# Altium footprint library SOD-80.PcbLib: 1 footprints
Each footprint in its own frame and in the unit in brackets; x right, y up, seen from the top. Pads: shape width x height; smd on the part's side, far side on the other; paste and mask are expansions set on the pad; w line width, h text height; cw(c..) or ccw(c..) is an arc to the next point about the centre after c.
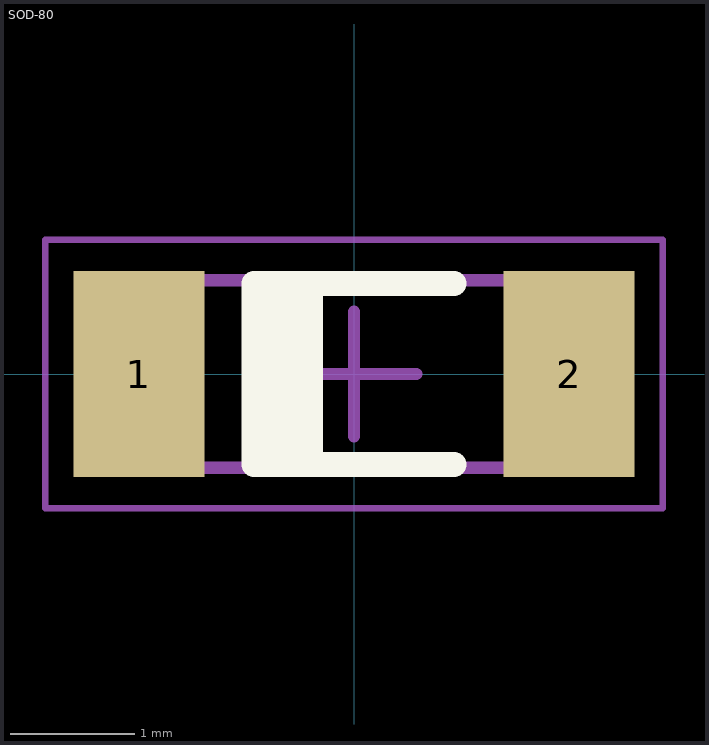
[diagram p0: the footprint, top view; thin cyan lines are the x and y axes]

## SOD-80 [mm] "MELF Diode, 2-Leads, Body 3,50x1,45mm, IPC Medium Density"
height 1.5
pads (2):
  rect 1.05x1.65 smd: 1(-1.725,0) 2(1.725,0)
Top Overlay:
  rectangle: -0.8,-0.725 -0.25,0.725
  lines w0.2: 0.8,-0.725 -0.8,-0.725 -0.8,0.725 0.8,0.725
Mechanical 13:
  lines w0.1: -1.8,-0.75 1.8,-0.75 1.8,0.75 -1.8,0.75 -1.8,-0.75
Mechanical 15:
  lines w0.05: -2.475,-1.075 2.475,-1.075 2.475,1.075 -2.475,1.075 -2.475,-1.075
  lines w0.1: -0.5,0 0.5,0 ; 0,-0.5 0,0.5
3D body: height 1.49, standoff 0, extent 1.4,-0.75 1.8,0.747
3D body: height 1.48, standoff 0.04, extent -1.4,-0.72 1.4,0.717
3D body: height 1.48, standoff 0.04, extent -0.8,-0.721 -0.2,0.718
3D body: height 1.49, standoff 0, extent -1.8,-0.75 -1.4,0.747